# Altium schematic symbol library electrode_module3.3.SchLib: 8 symbols
Pins are listed as number, name and electrical type; pins without a type are passive.

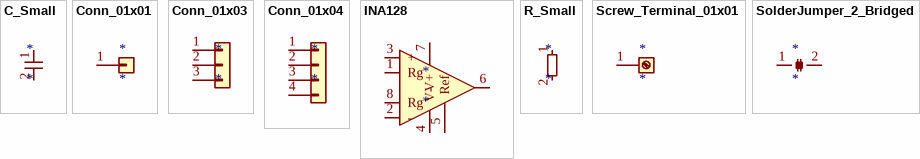
[diagram p0: symbols C_Small to SolderJumper_2_Bridged]

## C_Small
designator *
pins: 1, 2

## Conn_01x01
designator *
pins: 1 Pin_1

## Conn_01x03
designator *
pins: 1 Pin_1, 2 Pin_2, 3 Pin_3

## Conn_01x04
designator *
pins: 1 Pin_1, 2 Pin_2, 3 Pin_3, 4 Pin_4

## INA128
designator *
pins: 1 Rg, 2 -, 3 +, 4 V-, 5 Ref, 6, 7 V+, 8 Rg

## R_Small
designator *
pins: 1, 2

## Screw_Terminal_01x01
designator *
pins: 1 Pin_1

## SolderJumper_2_Bridged
designator *
pins: 1 A, 2 B